# Altium integrated library 10 Pin 5X2Pos THT BergeStick 2.54MM MTSW-105-X-X-D-X.IntLib: 1 symbol
Pins are listed as number, name and electrical type; pins without a type are passive.

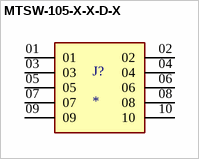
[diagram p0: symbol MTSW-105-X-X-D-X]

## MTSW-105-X-X-D-X
designator J?
MF: {'manufacturer': u'Samtec Inc.'}; MP: MTSW-105-X-X-D-X; Package: None; Price: None; Value: *; Availability: Unavailable
footprint SAMTEC_MTSW-105-X-X-D-X
pins: 01, 02, 03, 04, 05, 06, 07, 08, 09, 10